# Altium footprint library switch.PCBLIB: 92 footprints (part 5 of 6)
Each footprint in its own frame and in the unit in brackets; x right, y up, seen from the top. Pads: shape width x height; smd on the part's side, far side on the other; paste and mask are expansions set on the pad; w line width, h text height; cw(c..) or ccw(c..) is an arc to the next point about the centre after c.
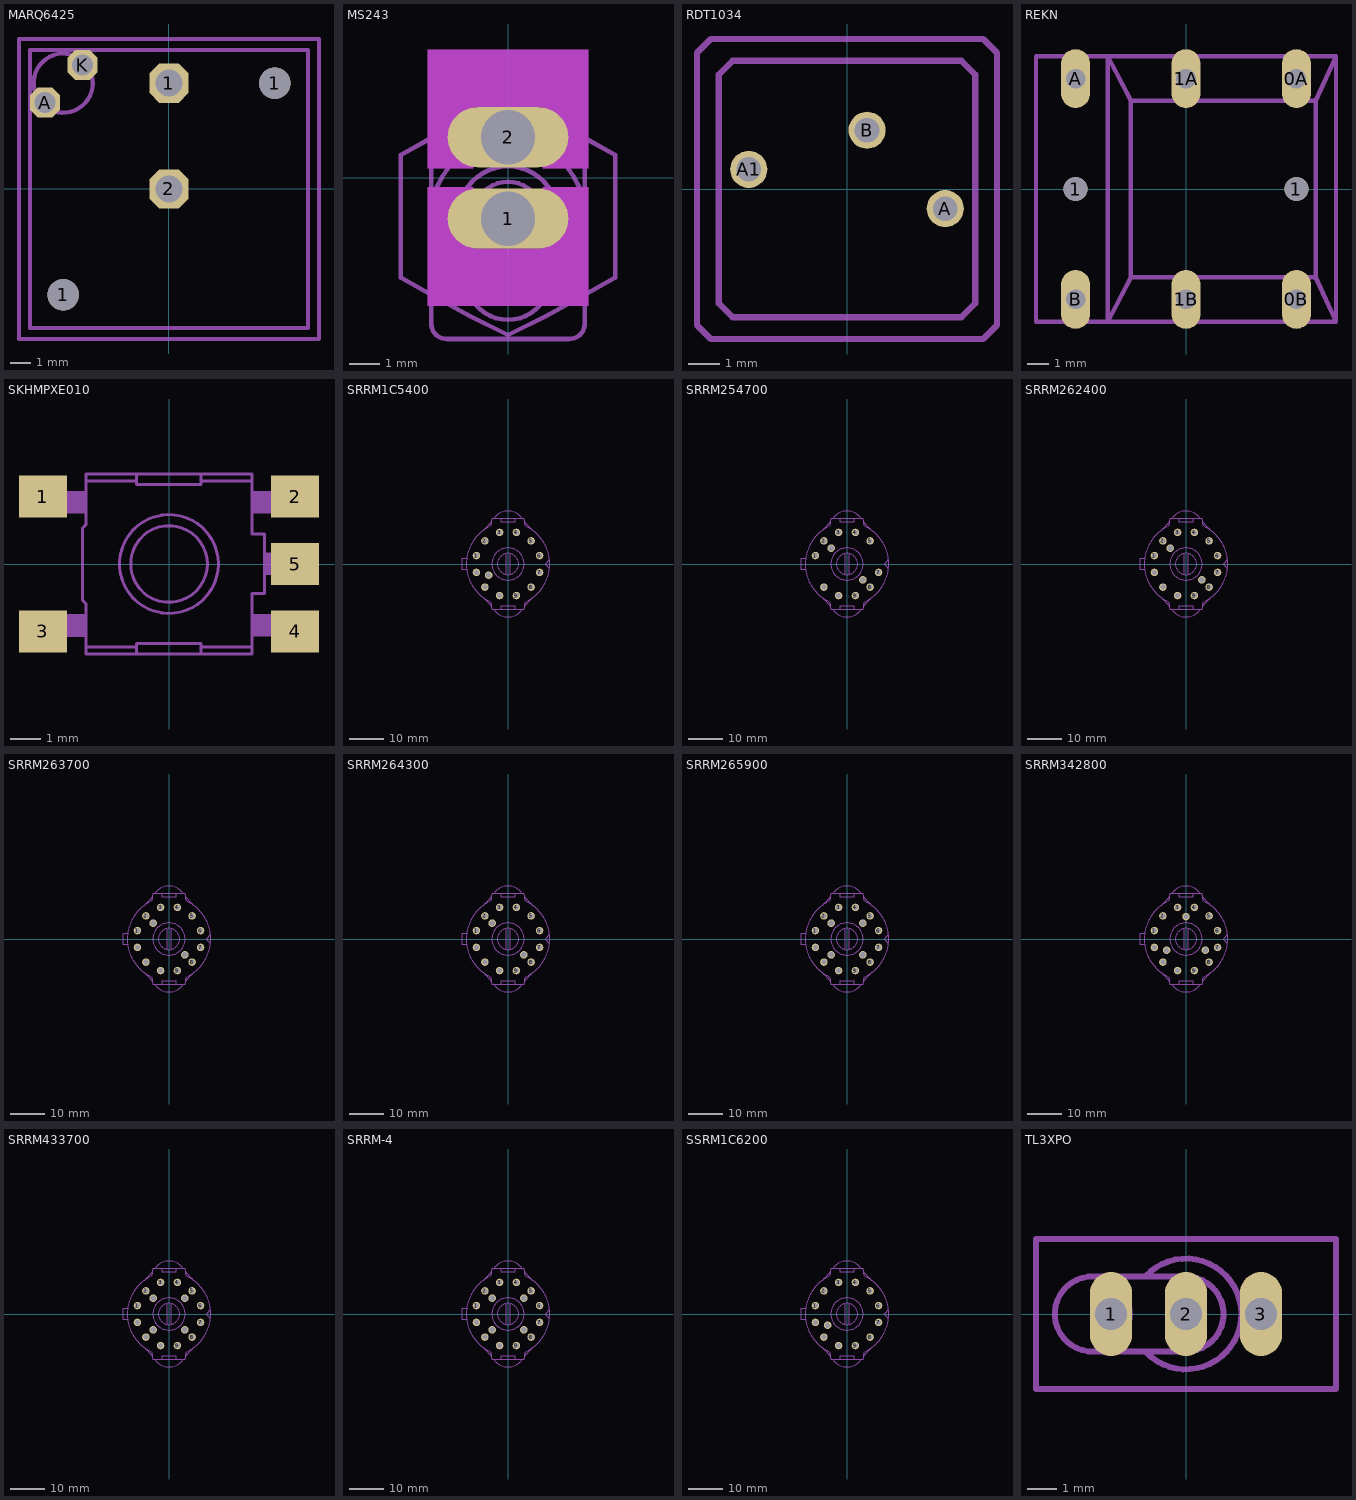
[diagram p4: the footprints below, top view; thin cyan lines are the x and y axes]

## MARQ6425 [mm]
pads (6):
  round 1.5 hole 1.5: 1(-5.08,-5.08) 1(5.08,5.08)
  oct 1.888x1.888 hole 1.3: 1(0,5.08) 2(0,0)
  oct 1.452x1.452 hole 1: A(-5.95,4.15) K(-4.15,5.95)
Mechanical 2:
  lines w0.203: -7.2,-7.2 7.2,-7.2 7.2,7.2 -7.2,7.2 -7.2,-7.2
Mechanical 18:
  circle w0.203: c-5.08,5.08 r1.42
  lines w0.203: -6.675,-6.675 6.675,-6.675 6.675,6.675 -6.675,6.675 -6.675,-6.675

## MS243 [mil]
pads (2):
  oval 157.48x78.74 hole 71: 1(0,-53) 2(0,53)
Top Solder:
  lines w86: -60,-75 60,-75 60,0 -60,0 -60,-75 ; -60,106 60,106 60,181 -60,181 -60,106
Bottom Solder:
  lines w86: -60,-75 60,-75 60,0 -60,0 -60,-75 ; -60,106 -60,181 60,181 60,106 -60,106
Mechanical 2:
  lines w6: -105,49 -140,30 -140,-130 -95,-155 ; -100,-150 -100,-190 ccw(c-80,-190) -80,-210 80,-210 ccw(c80,-190) 100,-190 100,-150 ; -50,-180 0,-205 50,-180 ; 95,-155 140,-130 140,30 105,49
Mechanical 10 keep-out:
  rectangle: -50,92 50,167
  rectangle: 45,12 105,167
  rectangle: -105,12 -45,167
  rectangle: -50,-167 50,-92
  rectangle: -105,-167 -45,-12
  rectangle: 45,-167 105,-12
Mechanical 11 keep-out:
  rectangle: -50,92 50,167
  rectangle: 45,12 105,167
  rectangle: -105,12 -45,167
  rectangle: -50,-167 50,-92
  rectangle: -105,-167 -45,-12
  rectangle: 45,-167 105,-12
Mechanical 12:
  rectangle: -50,92 50,167
  rectangle: 45,12 105,167
  rectangle: -105,12 -45,167
  rectangle: -50,-167 50,-92
  rectangle: -105,-167 -45,-12
  rectangle: 45,-167 105,-12
Mechanical 18:
  lines w6: -105,49 -85,60 0,105 85,60 105,49 ; -100,-150 -100,90 cw(c-80,90) -80,110 80,110 cw(c80,90) 100,90 100,-150 ; -95,-155 -50,-180 ; -54.33,-133.96 cw(c0,-50.01) -100,-50 cw(c0,-50) 100,-50 cw(c0,-50.01) 54.33,-133.96 ; -50.76,-90.61 cw(c0,-50) 0,15 cw(c0,-50) 50.76,-90.61 ; 50,-180 95,-155 ; -55,-130 -45,-50 cw(c0,-50) 45,-50 55,-130 cw(c0,-130) -55,-130

## RDT1034 [mil]
pads (3):
  round 47.25 hole 31.5: A(125,-25) A1(-125,25) B(25.59,74.8)
Mechanical 2:
  lines w8: -190.94,-173.23 -190.94,173.23 -173.23,190.94 173.23,190.94 190.94,173.23 190.94,-173.23 173.23,-190.94 -173.23,-190.94 -190.94,-173.23 ; -163.39,-145.67 -163.39,145.67 -145.67,163.39 145.67,163.39 163.39,145.67 163.39,-145.67 145.67,-163.39 -145.67,-163.39 -163.39,-145.67

## REKN [mil]
pads (8):
  oval 53.15x106.29 hole 35.43: 0A(200,200) 0B(200,-200) 1A(0,200) 1B(0,-200) A(-200,200) B(-200,-200)
  round 43.31 hole 43.31: 1(-200,0) 1(200,0)
Mechanical 2:
  lines w8: -141.73,-240.16 -271.65,-240.16 -271.65,240.16 -141.73,240.16 ; -141.73,-240.16 271.65,-240.16 ; -141.73,-240.16 -141.73,240.16 ; -141.73,-240.16 -100,-160 ; -141.73,240.16 271.65,240.16 ; -141.73,240.16 -100,160 ; -100,-160 -100,160 ; -100,-160 235,-160 ; -100,160 235,160 ; 235,-160 271.65,-240.16 ; 235,-160 235,160 ; 235,160 271.65,240.16 ; 271.65,-240.16 271.65,240.16

## SKHMPXE010 [mil]
pads (5):
  rect 62.99x55.12 smd: 1(-165.35,88.58) 2(165.35,88.58) 3(-165.35,-88.58) 4(165.35,-88.58) 5(165.35,0)
Mechanical 2:
  circle w4: c0,0 r50.25
  circle w4: c0,0 r64.86
  rectangle: -130.89,66.03 -109.27,95.83
  rectangle: -130.89,-95.83 -109.85,-65.44
  rectangle: 109.85,66.03 130.89,95.83
  rectangle: 125.63,-14.61 130.89,15.19
  rectangle: 109.27,-95.24 130.89,-65.44
  lines w4: -106.35,-108.69 -44.41,-108.69 ; -106.35,108.69 -44.41,108.69 ; -42.66,-115.7 -42.66,-104.59 42.07,-104.59 42.07,-108.69 ; -42.66,115.7 -42.66,104.59 42.07,104.59 42.07,108.69 ; 42.07,-116.28 42.07,-108.69 ; 42.07,116.28 42.07,108.69 ; 106.93,-108.69 42.07,-108.69 ; 106.93,108.69 42.07,108.69 ; -113.36,-47.91 -108.69,-52.59 -108.69,-118.04 108.69,-118.04 108.69,-38.57 125.05,-38.57 125.05,39.15 108.69,39.15 108.69,118.04 -108.69,118.04 -108.69,52.01 -113.36,47.33 -113.36,-47.91
Mechanical 18:
  rectangle: -157.19,66.03 -109.27,95.83
  rectangle: -157.19,-95.83 -109.85,-65.44
  rectangle: 109.27,-95.24 157.19,-65.44
  rectangle: 126.22,-14.61 151.93,15.19
  rectangle: 109.85,66.03 157.19,95.83

## SRRM1C5400 [mil]
pads (13):
  round 86 hole 59.06: 1(-361.27,96.8) 2(-264.47,264.47) 3(-96.8,361.27) 4(96.8,361.27) 5(264.47,264.47) 6(361.27,96.8) 7(361.27,-96.8) 8(264.47,-264.47) 9(96.8,-361.27) 10(-96.8,-361.27) 11(-264.47,-264.47) 12(-361.27,-96.8) 13(-221.62,-127.95)
Mechanical 2:
  circle w8: c0,0 r184.06
  circle w8: c0,0 r121.06
  lines w8: -478.35,58.07 -530.51,58.07 -530.51,-58.07 -476.38,-58.07 ; -277.56,-387.8 cw(c-800.71,-949.26) -185.04,-491.14 ; -277.56,387.8 ccw(c-800.71,949.26) -185.04,491.14 ; -191.93,-437.99 -180.12,-524.61 180.12,-524.61 192.91,-436.02 ccw(c0,0.55) 190.94,437.99 ; -190.94,-437.99 cw(c0,-0.55) -192.91,436.02 -180.12,524.61 180.12,524.61 191.93,437.99 ; -155.51,-528.54 ccw(c0,-411.91) 155.51,-528.54 ; -155.51,528.54 cw(c0,411.91) 155.51,528.54 ; -80.71,-520.67 -80.71,-485.24 80.71,-485.24 80.71,-520.67 ; -80.71,520.67 -80.71,485.24 80.71,485.24 80.71,520.67 ; -24.61,-117.13 -24.61,114.17 ; 22.64,-117.13 22.64,114.17 ; 185.04,-491.14 cw(c800.71,-949.26) 277.56,-387.8 ; 185.04,491.14 ccw(c800.71,949.26) 277.56,387.8 ; 473.43,-47.24 426.18,0 473.43,47.24

## SRRM254700 [mil]
pads (12):
  round 86 hole 59.06: 1(-361.27,96.8) 2(-264.47,264.47) 3(-96.8,361.27) 4(96.8,361.27) 5(264.47,264.47) 7(361.27,-96.8) 8(264.47,-264.47) 9(96.8,-361.27) 10(-96.8,-361.27) 11(-264.47,-264.47) 13(-180.95,180.95) 14(180.95,-180.95)
Mechanical 2:
  circle w8: c0,0 r184.06
  circle w8: c0,0 r121.06
  lines w8: -478.35,58.07 -530.51,58.07 -530.51,-58.07 -476.38,-58.07 ; -277.56,-387.8 cw(c-800.71,-949.26) -185.04,-491.14 ; -277.56,387.8 ccw(c-800.71,949.26) -185.04,491.14 ; -191.93,-437.99 -180.12,-524.61 180.12,-524.61 192.91,-436.02 ccw(c0,0.55) 190.94,437.99 ; -190.94,-437.99 cw(c0,-0.55) -192.91,436.02 -180.12,524.61 180.12,524.61 191.93,437.99 ; -155.51,-528.54 ccw(c0,-411.91) 155.51,-528.54 ; -155.51,528.54 cw(c0,411.91) 155.51,528.54 ; -80.71,-520.67 -80.71,-485.24 80.71,-485.24 80.71,-520.67 ; -80.71,520.67 -80.71,485.24 80.71,485.24 80.71,520.67 ; -24.61,-117.13 -24.61,114.17 ; 22.64,-117.13 22.64,114.17 ; 185.04,-491.14 cw(c800.71,-949.26) 277.56,-387.8 ; 185.04,491.14 ccw(c800.71,949.26) 277.56,387.8 ; 473.43,-47.24 426.18,0 473.43,47.24

## SRRM262400 [mil]
pads (14):
  round 86 hole 59.06: 1(-361.27,96.8) 2(-264.47,264.47) 3(-96.8,361.27) 4(96.8,361.27) 5(264.47,264.47) 6(361.27,96.8) 7(361.27,-96.8) 8(264.47,-264.47) 9(96.8,-361.27) 10(-96.8,-361.27) 11(-264.47,-264.47) 12(-361.27,-96.8) 13(-180.95,180.95) 14(180.95,-180.95)
Mechanical 2:
  circle w8: c0,0 r184.06
  circle w8: c0,0 r121.06
  lines w8: -478.35,58.07 -530.51,58.07 -530.51,-58.07 -476.38,-58.07 ; -277.56,-387.8 cw(c-800.71,-949.26) -185.04,-491.14 ; -277.56,387.8 ccw(c-800.71,949.26) -185.04,491.14 ; -191.93,-437.99 -180.12,-524.61 180.12,-524.61 192.91,-436.02 ccw(c0,0.55) 190.94,437.99 ; -190.94,-437.99 cw(c0,-0.55) -192.91,436.02 -180.12,524.61 180.12,524.61 191.93,437.99 ; -155.51,-528.54 ccw(c0,-411.91) 155.51,-528.54 ; -155.51,528.54 cw(c0,411.91) 155.51,528.54 ; -80.71,-520.67 -80.71,-485.24 80.71,-485.24 80.71,-520.67 ; -80.71,520.67 -80.71,485.24 80.71,485.24 80.71,520.67 ; -24.61,-117.13 -24.61,114.17 ; 22.64,-117.13 22.64,114.17 ; 185.04,-491.14 cw(c800.71,-949.26) 277.56,-387.8 ; 185.04,491.14 ccw(c800.71,949.26) 277.56,387.8 ; 473.43,-47.24 426.18,0 473.43,47.24

## SRRM263700 [mil]
pads (14):
  round 86 hole 59.06: 1(-361.27,96.8) 2(-264.47,264.47) 3(-96.8,361.27) 4(96.8,361.27) 5(264.47,264.47) 6(361.27,96.8) 7(361.27,-96.8) 8(264.47,-264.47) 9(96.8,-361.27) 10(-96.8,-361.27) 11(-264.47,-264.47) 12(-361.27,-96.8) 13(-180.95,180.95) 14(180.95,-180.95)
Mechanical 2:
  circle w8: c0,0 r184.06
  circle w8: c0,0 r121.06
  lines w8: -478.35,58.07 -530.51,58.07 -530.51,-58.07 -476.38,-58.07 ; -277.56,-387.8 cw(c-800.71,-949.26) -185.04,-491.14 ; -277.56,387.8 ccw(c-800.71,949.26) -185.04,491.14 ; -191.93,-437.99 -180.12,-524.61 180.12,-524.61 192.91,-436.02 ccw(c0,0.55) 190.94,437.99 ; -190.94,-437.99 cw(c0,-0.55) -192.91,436.02 -180.12,524.61 180.12,524.61 191.93,437.99 ; -155.51,-528.54 ccw(c0,-411.91) 155.51,-528.54 ; -155.51,528.54 cw(c0,411.91) 155.51,528.54 ; -80.71,-520.67 -80.71,-485.24 80.71,-485.24 80.71,-520.67 ; -80.71,520.67 -80.71,485.24 80.71,485.24 80.71,520.67 ; -24.61,-117.13 -24.61,114.17 ; 22.64,-117.13 22.64,114.17 ; 185.04,-491.14 cw(c800.71,-949.26) 277.56,-387.8 ; 185.04,491.14 ccw(c800.71,949.26) 277.56,387.8 ; 473.43,-47.24 426.18,0 473.43,47.24

## SRRM264300 [mil]
pads (14):
  round 86 hole 59.06: 1(-361.27,96.8) 2(-264.47,264.47) 3(-96.8,361.27) 4(96.8,361.27) 5(264.47,264.47) 6(361.27,96.8) 7(361.27,-96.8) 8(264.47,-264.47) 9(96.8,-361.27) 10(-96.8,-361.27) 11(-264.47,-264.47) 12(-361.27,-96.8) 13(-180.95,180.95) 14(180.95,-180.95)
Mechanical 2:
  circle w8: c0,0 r184.06
  circle w8: c0,0 r121.06
  lines w8: -478.35,58.07 -530.51,58.07 -530.51,-58.07 -476.38,-58.07 ; -277.56,-387.8 cw(c-800.71,-949.26) -185.04,-491.14 ; -277.56,387.8 ccw(c-800.71,949.26) -185.04,491.14 ; -191.93,-437.99 -180.12,-524.61 180.12,-524.61 192.91,-436.02 ccw(c0,0.55) 190.94,437.99 ; -190.94,-437.99 cw(c0,-0.55) -192.91,436.02 -180.12,524.61 180.12,524.61 191.93,437.99 ; -155.51,-528.54 ccw(c0,-411.91) 155.51,-528.54 ; -155.51,528.54 cw(c0,411.91) 155.51,528.54 ; -80.71,-520.67 -80.71,-485.24 80.71,-485.24 80.71,-520.67 ; -80.71,520.67 -80.71,485.24 80.71,485.24 80.71,520.67 ; -24.61,-117.13 -24.61,114.17 ; 22.64,-117.13 22.64,114.17 ; 185.04,-491.14 cw(c800.71,-949.26) 277.56,-387.8 ; 185.04,491.14 ccw(c800.71,949.26) 277.56,387.8 ; 473.43,-47.24 426.18,0 473.43,47.24

## SRRM265900 [mil]
pads (16):
  round 86 hole 59.06: 1(-361.27,96.8) 2(-264.47,264.47) 3(-96.8,361.27) 4(96.8,361.27) 5(264.47,264.47) 6(361.27,96.8) 7(361.27,-96.8) 8(264.47,-264.47) 9(96.8,-361.27) 10(-96.8,-361.27) 11(-264.47,-264.47) 12(-361.27,-96.8) 13(-180.95,180.95) 14(180.95,180.95) 15(-180.95,-180.95) 16(180.95,-180.95)
Mechanical 2:
  circle w8: c0,0 r184.06
  circle w8: c0,0 r121.06
  lines w8: -478.35,58.07 -530.51,58.07 -530.51,-58.07 -476.38,-58.07 ; -277.56,-387.8 cw(c-800.71,-949.26) -185.04,-491.14 ; -277.56,387.8 ccw(c-800.71,949.26) -185.04,491.14 ; -191.93,-437.99 -180.12,-524.61 180.12,-524.61 192.91,-436.02 ccw(c0,0.55) 190.94,437.99 ; -190.94,-437.99 cw(c0,-0.55) -192.91,436.02 -180.12,524.61 180.12,524.61 191.93,437.99 ; -155.51,-528.54 ccw(c0,-411.91) 155.51,-528.54 ; -155.51,528.54 cw(c0,411.91) 155.51,528.54 ; -80.71,-520.67 -80.71,-485.24 80.71,-485.24 80.71,-520.67 ; -80.71,520.67 -80.71,485.24 80.71,485.24 80.71,520.67 ; -24.61,-117.13 -24.61,114.17 ; 22.64,-117.13 22.64,114.17 ; 185.04,-491.14 cw(c800.71,-949.26) 277.56,-387.8 ; 185.04,491.14 ccw(c800.71,949.26) 277.56,387.8 ; 473.43,-47.24 426.18,0 473.43,47.24

## SRRM342800 [mil]
pads (15):
  round 86 hole 59.06: 1(-361.27,96.8) 2(-264.47,264.47) 3(-96.8,361.27) 4(96.8,361.27) 5(264.47,264.47) 6(361.27,96.8) 7(361.27,-96.8) 8(264.47,-264.47) 9(96.8,-361.27) 10(-96.8,-361.27) 11(-264.47,-264.47) 12(-361.27,-96.8) 13(0,255.9) 14(221.61,-127.94) 15(-221.61,-127.95)
Mechanical 2:
  circle w8: c0,0 r184.06
  circle w8: c0,0 r121.06
  lines w8: -478.35,58.07 -530.51,58.07 -530.51,-58.07 -476.38,-58.07 ; -277.56,-387.8 cw(c-800.71,-949.26) -185.04,-491.14 ; -277.56,387.8 ccw(c-800.71,949.26) -185.04,491.14 ; -191.93,-437.99 -180.12,-524.61 180.12,-524.61 192.91,-436.02 ccw(c0,0.55) 190.94,437.99 ; -190.94,-437.99 cw(c0,-0.55) -192.91,436.02 -180.12,524.61 180.12,524.61 191.93,437.99 ; -155.51,-528.54 ccw(c0,-411.91) 155.51,-528.54 ; -155.51,528.54 cw(c0,411.91) 155.51,528.54 ; -80.71,-520.67 -80.71,-485.24 80.71,-485.24 80.71,-520.67 ; -80.71,520.67 -80.71,485.24 80.71,485.24 80.71,520.67 ; -24.61,-117.13 -24.61,114.17 ; 22.64,-117.13 22.64,114.17 ; 185.04,-491.14 cw(c800.71,-949.26) 277.56,-387.8 ; 185.04,491.14 ccw(c800.71,949.26) 277.56,387.8 ; 473.43,-47.24 426.18,0 473.43,47.24

## SRRM433700 [mil]
pads (16):
  round 86 hole 59.06: 1(-361.27,96.8) 2(-264.47,264.47) 3(-96.8,361.27) 4(96.8,361.27) 5(264.47,264.47) 6(361.27,96.8) 7(361.27,-96.8) 8(264.47,-264.47) 9(96.8,-361.27) 10(-96.8,-361.27) 11(-264.47,-264.47) 12(-361.27,-96.8) 13(-180.95,180.95) 14(180.95,180.95) 15(180.95,-180.95) 16(-180.95,-180.95)
Mechanical 2:
  circle w8: c0,0 r184.06
  circle w8: c0,0 r121.06
  lines w8: -478.35,58.07 -530.51,58.07 -530.51,-58.07 -476.38,-58.07 ; -277.56,-387.8 cw(c-800.71,-949.26) -185.04,-491.14 ; -277.56,387.8 ccw(c-800.71,949.26) -185.04,491.14 ; -191.93,-437.99 -180.12,-524.61 180.12,-524.61 192.91,-436.02 ccw(c0,0.55) 190.94,437.99 ; -190.94,-437.99 cw(c0,-0.55) -192.91,436.02 -180.12,524.61 180.12,524.61 191.93,437.99 ; -155.51,-528.54 ccw(c0,-411.91) 155.51,-528.54 ; -155.51,528.54 cw(c0,411.91) 155.51,528.54 ; -80.71,-520.67 -80.71,-485.24 80.71,-485.24 80.71,-520.67 ; -80.71,520.67 -80.71,485.24 80.71,485.24 80.71,520.67 ; -24.61,-117.13 -24.61,114.17 ; 22.64,-117.13 22.64,114.17 ; 185.04,-491.14 cw(c800.71,-949.26) 277.56,-387.8 ; 185.04,491.14 ccw(c800.71,949.26) 277.56,387.8 ; 473.43,-47.24 426.18,0 473.43,47.24

## SRRM-4 [mil]
pads (16):
  round 86 hole 59.06: 1(-361.27,96.8) 2(-264.47,264.47) 3(-96.8,361.27) 4(96.8,361.27) 5(264.47,264.47) 6(361.27,96.8) 7(361.27,-96.8) 8(264.47,-264.47) 9(96.8,-361.27) 10(-96.8,-361.27) 11(-264.47,-264.47) 12(-361.27,-96.8) 13(-180.95,180.95) 14(180.95,180.95) 15(-180.95,-180.95) 16(180.95,-180.95)
Mechanical 2:
  circle w8: c0,0 r184.06
  circle w8: c0,0 r121.06
  lines w8: -478.35,58.07 -530.51,58.07 -530.51,-58.07 -476.38,-58.07 ; -277.56,-387.8 cw(c-800.71,-949.26) -185.04,-491.14 ; -277.56,387.8 ccw(c-800.71,949.26) -185.04,491.14 ; -191.93,-437.99 -180.12,-524.61 180.12,-524.61 192.91,-436.02 ccw(c0,0.55) 190.94,437.99 ; -190.94,-437.99 cw(c0,-0.55) -192.91,436.02 -180.12,524.61 180.12,524.61 191.93,437.99 ; -155.51,-528.54 ccw(c0,-411.91) 155.51,-528.54 ; -155.51,528.54 cw(c0,411.91) 155.51,528.54 ; -80.71,-520.67 -80.71,-485.24 80.71,-485.24 80.71,-520.67 ; -80.71,520.67 -80.71,485.24 80.71,485.24 80.71,520.67 ; -24.61,-117.13 -24.61,114.17 ; 22.64,-117.13 22.64,114.17 ; 185.04,-491.14 cw(c800.71,-949.26) 277.56,-387.8 ; 185.04,491.14 ccw(c800.71,949.26) 277.56,387.8 ; 473.43,-47.24 426.18,0 473.43,47.24

## SSRM1C6200 [mil]
pads (13):
  round 86 hole 59.06: 1(-361.27,96.8) 2(-264.47,264.47) 3(-96.8,361.27) 4(96.8,361.27) 5(264.47,264.47) 6(361.27,96.8) 7(361.27,-96.8) 8(264.47,-264.47) 9(96.8,-361.27) 10(-96.8,-361.27) 11(-264.47,-264.47) 12(-361.27,-96.8) 13(-221.62,-127.95)
Mechanical 2:
  circle w8: c0,0 r184.06
  circle w8: c0,0 r121.06
  lines w8: -478.35,58.07 -530.51,58.07 -530.51,-58.07 -476.38,-58.07 ; -277.56,-387.8 cw(c-800.71,-949.26) -185.04,-491.14 ; -277.56,387.8 ccw(c-800.71,949.26) -185.04,491.14 ; -191.93,-437.99 -180.12,-524.61 180.12,-524.61 192.91,-436.02 ccw(c0,0.55) 190.94,437.99 ; -190.94,-437.99 cw(c0,-0.55) -192.91,436.02 -180.12,524.61 180.12,524.61 191.93,437.99 ; -155.51,-528.54 ccw(c0,-411.91) 155.51,-528.54 ; -155.51,528.54 cw(c0,411.91) 155.51,528.54 ; -80.71,-520.67 -80.71,-485.24 80.71,-485.24 80.71,-520.67 ; -80.71,520.67 -80.71,485.24 80.71,485.24 80.71,520.67 ; -24.61,-117.13 -24.61,114.17 ; 22.64,-117.13 22.64,114.17 ; 185.04,-491.14 cw(c800.71,-949.26) 277.56,-387.8 ; 185.04,491.14 ccw(c800.71,949.26) 277.56,387.8 ; 473.43,-47.24 426.18,0 473.43,47.24

## TL3XPO [mil]
pads (3):
  oval 56x112 hole 43.31: 1(-100,0) 2(0,0) 3(100,0)
Mechanical 2:
  lines w8: -200,-100 200,-100 200,100 -200,100 -200,-100
Mechanical 18:
  circle w8: c-125,0 r50
  lines w8: -125,-50 0,-50 ccw(c0,0) 0,50 -125,50 ; -54.13,50.2 cw(c0,0.03) -53.15,-51.18